# EAGLE library part DRV8871 (library my_ic)
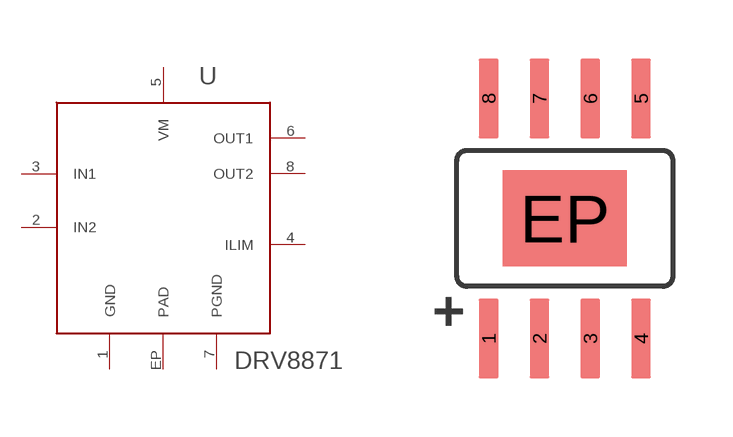
[diagram p33: symbol with the pads of 8HSOIC; footprint 8HSOIC]

Designator prefix -

## DRV8871  [8HSOIC]
1  GND
2  IN2
3  IN1
4  ILIM
5  VM
6  OUT1
7  PGND
8  OUT2
EP  PAD

## Footprint 8HSOIC (pad centres in mm)
smd 0.5 x 2: 1 -1.905,-3; 2 -0.635,-3; 3 0.635,-3; 4 1.905,-3; 5 1.905,3; 6 0.635,3; 7 -0.635,3; 8 -1.905,3
smd 3.1 x 2.4: EP 0,0